# Altium integrated library WE-SD_rev15a.intlib: 12 symbols
Pins are listed as number, name and electrical type; pins without a type are passive.

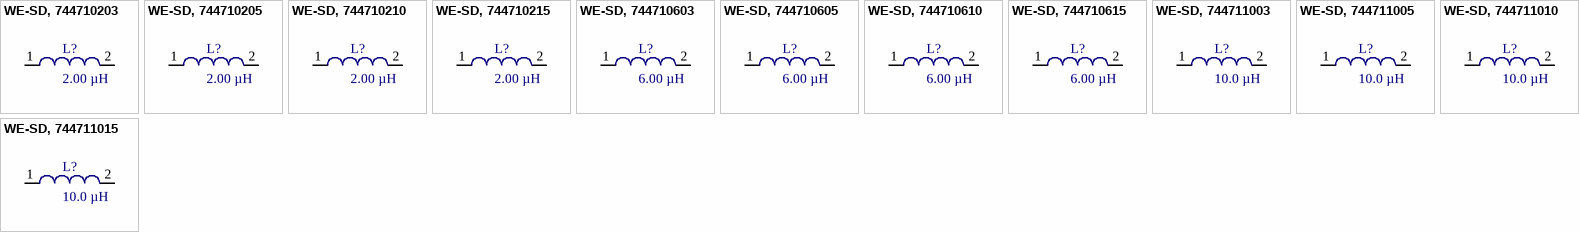
[diagram p0: symbols WE-SD, 744710203 to WE-SD, 744711015]

## WE-SD, 744710203
designator L?, comment 2.00 µH
Rod Core  Inductor High Current WE-SD, L=2.00 µH; partNo: 744710203; Manufacturer: Würth Elektronik eiSos GmbH; Inductance: 2.00 µH; ComponentLink1Description: Manufacturer; ComponentLink1URL: http://www.we-online.de; Created by: Christin Zierenner; Created Date: June 2009; ComponentLink2Description: Datasheet; ComponentLink2URL: http://www.we-online.de/katalog/media/pdf/744710203.pdf
footprint WE-SD 744710203 (THT Inductor, 2-Leads, Body 12,3x3,2mm)
pins: 1, 2

## WE-SD, 744710205
designator L?, comment 2.00 µH
Rod Core  Inductor High Current WE-SD, L=2.00 µH; partNo: 744710205; Manufacturer: Würth Elektronik eiSos GmbH; Inductance: 2.00 µH; ComponentLink1Description: Manufacturer; ComponentLink1URL: http://www.we-online.de; Created by: Christin Zierenner; Created Date: July 2009; ComponentLink2Description: Datasheet; ComponentLink2URL: http://www.we-online.de/katalog/media/pdf/744710205.pdf
footprint WE-SD 744710205 (THT Inductor, 2-Leads, Body 14x5,9mm)
pins: 1, 2

## WE-SD, 744710210
designator L?, comment 2.00 µH
Rod Core  Inductor High Current WE-SD, L=2.00 µH; partNo: 744710210; Manufacturer: Würth Elektronik eiSos GmbH; Inductance: 2.00 µH; ComponentLink1Description: Manufacturer; ComponentLink1URL: http://www.we-online.de; Created by: Christin Zierenner; Created Date: July 2009; ComponentLink2Description: Datasheet; ComponentLink2URL: http://www.we-online.de/katalog/media/pdf/744710210.pdf
footprint WE-SD 744710210 (THT Inductor, 2-Leads, Body 15,4x7,6mm)
pins: 1, 2

## WE-SD, 744710215
designator L?, comment 2.00 µH
Rod Core  Inductor High Current WE-SD, L=2.00 µH; partNo: 744710215; Manufacturer: Würth Elektronik eiSos GmbH; Inductance: 2.00 µH; ComponentLink1Description: Manufacturer; ComponentLink1URL: http://www.we-online.de; Created by: Christin Zierenner; Created Date: July 2009; ComponentLink2Description: Datasheet; ComponentLink2URL: http://www.we-online.de/katalog/media/pdf/744710215.pdf
footprint WE-SD 744710215 (THT Inductor, 2-Leads, Body 25,7x10mm)
pins: 1, 2

## WE-SD, 744710603
designator L?, comment 6.00 µH
Rod Core Inductor High Current WE-SD, L=6.00 µH; partNo: 744710603; Manufacturer: Würth Elektronik eiSos GmbH; Inductance: 6.00 µH; ComponentLink1Description: Manufacturer; ComponentLink1URL: http://www.we-online.de; Created by: Christin Zierenner; Created Date: July 2009; ComponentLink2Description: Datasheet; ComponentLink2URL: http://www.we-online.de/katalog/media/pdf/744710603.pdf
footprint WE-SD 744710603 (THT Inductor, 2-Leads, Body 15,4x4,2mm)
pins: 1, 2

## WE-SD, 744710605
designator L?, comment 6.00 µH
Rod Core  Inductor High Current WE-SD, L=6.00 µH; partNo: 744710605; Manufacturer: Würth Elektronik eiSos GmbH; Inductance: 6.00 µH; ComponentLink1Description: Manufacturer; ComponentLink1URL: http://www.we-online.de; Created by: Christin Zierenner; Created Date: July 2009; ComponentLink2Description: Datasheet; ComponentLink2URL: http://www.we-online.de/katalog/media/pdf/744710605.pdf
footprint WE-SD 744710605 (THT Inductor, 2-Leads, Body 20,5x6,9mm)
pins: 1, 2

## WE-SD, 744710610
designator L?, comment 6.00 µH
Rod Core  Inductor High Current WE-SD, L=6.00 µH; partNo: 744710610; Manufacturer: Würth Elektronik eiSos GmbH; Inductance: 6.00 µH; ComponentLink1Description: Manufacturer; ComponentLink1URL: http://www.we-online.de; Created by: Christin Zierenner; Created Date: July 2009; ComponentLink2Description: Datasheet; ComponentLink2URL: http://www.we-online.de/katalog/media/pdf/744710610.pdf
footprint WE-SD 744710610 (THT Inductor, 2-Leads, Body 25,7x8,6mm)
pins: 1, 2

## WE-SD, 744710615
designator L?, comment 6.00 µH
Rod Core Inductor High Current WE-SD, L=6.00 µH; partNo: 744710615; Manufacturer: Würth Elektronik eiSos GmbH; Inductance: 6.00 µH; ComponentLink1Description: Manufacturer; ComponentLink1URL: http://www.we-online.de; Created by: Christin Zierenner; Created Date: July 2009; ComponentLink2Description: Datasheet; ComponentLink2URL: http://www.we-online.de/katalog/media/pdf/744710615.pdf
footprint WE-SD 744710615 (THT Inductor, 2-Leads, Body 30x14mm)
pins: 1, 2

## WE-SD, 744711003
designator L?, comment 10.0 µH
Rod Core Inductor High Current WE-SD, L=10.0 µH; partNo: 744711003; Manufacturer: Würth Elektronik eiSos GmbH; Inductance: 10.0 µH; ComponentLink1Description: Manufacturer; ComponentLink1URL: http://www.we-online.de; Created by: Christin Zierenner; Created Date: July 2009; ComponentLink2Description: Datasheet; ComponentLink2URL: http://www.we-online.de/katalog/media/pdf/744711003.pdf
footprint WE-SD 744711003 (THT Inductor, 2-Leads, Body 18,5x5,2mm)
pins: 1, 2

## WE-SD, 744711005
designator L?, comment 10.0 µH
Rod Core Inductor High Current WE-SD, L=10.0 µH; partNo: 744711005; Manufacturer: Würth Elektronik eiSos GmbH; Inductance: 10.0 µH; ComponentLink1Description: Manufacturer; ComponentLink1URL: http://www.we-online.de; Created by: Christin Zierenner; Created Date: July 2009; ComponentLink2Description: Datasheet; ComponentLink2URL: http://www.we-online.de/katalog/media/pdf/744711005.pdf
footprint WE-SD 744711005 (THT Inductor, 2-Leads, Body 22,5x6,9mm)
pins: 1, 2

## WE-SD, 744711010
designator L?, comment 10.0 µH
Rod Core Inductor High Current WE-SD, L=10.0 µH; partNo: 744711010; Manufacturer: Würth Elektronik eiSos GmbH; Inductance: 10.0 µH; ComponentLink1Description: Manufacturer; ComponentLink1URL: http://www.we-online.de; Created by: Christin Zierenner; Created Date: June 2009; ComponentLink2Description: Datasheet; ComponentLink2URL: http://www.we-online.de/katalog/media/pdf/744711010.pdf
footprint WE-SD 744711010 (THT Inductor, 2-Leads, Body 30,9x8,6mm)
pins: 1, 2

## WE-SD, 744711015
designator L?, comment 10.0 µH
Rod Core Inductor High Current  WE-SD, L=10.0 µH; partNo: 744711015; Manufacturer: Würth Elektronik eiSos GmbH; Inductance: 10.0 µH; ComponentLink1Description: Manufacturer; ComponentLink1URL: http://www.we-online.de; Created by: Christin Zierenner; Created Date: June 2009; ComponentLink2Description: Datasheet; ComponentLink2URL: http://www.we-online.de/katalog/media/pdf/744711015.pdf
footprint WE-SD 744711015 (THT Inductor, 2-Leads, Body 30,8x16mm)
pins: 1, 2